# EAGLE library part 74LVC_LVCH245A (library Kolja)
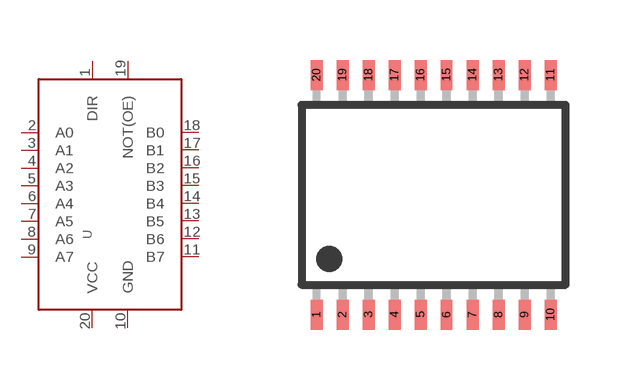
[diagram p12: symbol with the pads of TSSOP20; footprint TSSOP20]

Designator prefix -

## 74LVC_LVCH245A  [TSSOP20]
1  DIR
2  A0
3  A1
4  A2
5  A3
6  A4
7  A5
8  A6
9  A7
10  GND
11  B7
12  B6
13  B5
14  B4
15  B3
16  B2
17  B1
18  B0
19  NOT(OE)
20  VCC

## Footprint TSSOP20 (pad centres in mm)
smd 0.3 x 0.75: 1 -2.925,-3; 2 -2.275,-3; 3 -1.625,-3; 4 -0.975,-3; 5 -0.325,-3; 6 0.325,-3; 7 0.975,-3; 8 1.625,-3; 9 2.275,-3; 10 2.925,-3; 11 2.925,3; 12 2.275,3; 13 1.625,3; 14 0.975,3; 15 0.325,3; 16 -0.325,3; 17 -0.975,3; 18 -1.625,3; 19 -2.275,3; 20 -2.925,3